# EAGLE library part DRV8801RTYT (library DRV8801_ultra_librarian)
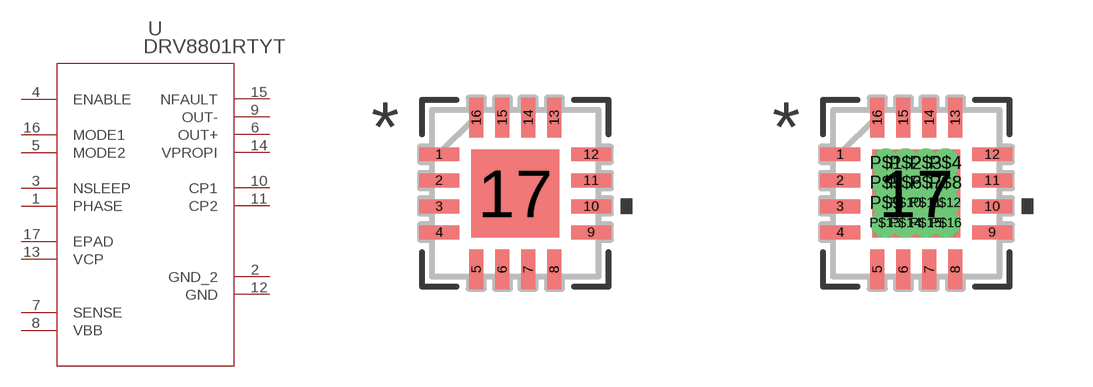
[diagram p0: symbol with the pads of RTY16; footprints RTY16, RTY16-THERMAL]

Designator prefix U

## DRV8801RTYT (MANUFACTURER_PART_NUMBER: DRV8801RTYT; VENDOR: Texas Instruments)  [RTY16]
1  PHASE  in
2  GND_2  pwr
3  NSLEEP  in
4  ENABLE  in
5  MODE2  in
6  OUT+  out
7  SENSE  pwr
8  VBB  pwr
9  OUT-  out
10  CP1  pas
11  CP2  pas
12  GND  pwr
13  VCP  pas
14  VPROPI  out
15  NFAULT  out
16  MODE1  in
17  EPAD  pas

## DRV8801RTYTRTY16-THERMAL  [RTY16-THERMAL]
1  PHASE  in
2  GND_2  pwr
3  NSLEEP  in
4  ENABLE  in
5  MODE2  in
6  OUT+  out
7  SENSE  pwr
8  VBB  pwr
9  OUT-  out
10  CP1  pas
11  CP2  pas
12  GND  pwr
13  VCP  pas
14  VPROPI  out
15  NFAULT  out
16  MODE1  in
17  EPAD  pas
P$1  EPAD  pas
P$2  EPAD  pas
P$3  EPAD  pas
P$4  EPAD  pas
P$5  EPAD  pas
P$6  EPAD  pas
P$7  EPAD  pas
P$8  EPAD  pas
P$9  EPAD  pas
P$10  EPAD  pas
P$11  EPAD  pas
P$12  EPAD  pas
P$13  EPAD  pas
P$14  EPAD  pas
P$15  EPAD  pas
P$16  EPAD  pas

## Footprint RTY16 (pad centres in mm)
smd 1 x 0.35: 1 -1.9,0.975; 2 -1.9,0.325; 3 -1.9,-0.325; 4 -1.9,-0.975; 9 1.9,-0.975; 10 1.9,-0.325; 11 1.9,0.325; 12 1.9,0.975
smd 0.35 x 1: 5 -0.975,-1.9; 6 -0.325,-1.9; 7 0.325,-1.9; 8 0.975,-1.9; 13 0.975,1.9; 14 0.325,1.9; 15 -0.325,1.9; 16 -0.975,1.9
smd 2.2 x 2.2: 17 0,0

## Footprint RTY16-THERMAL (pad centres in mm)
smd 1 x 0.35: 1 -1.9,0.975; 2 -1.9,0.325; 3 -1.9,-0.325; 4 -1.9,-0.975; 9 1.9,-0.975; 10 1.9,-0.325; 11 1.9,0.325; 12 1.9,0.975
smd 0.35 x 1: 5 -0.975,-1.9; 6 -0.325,-1.9; 7 0.325,-1.9; 8 0.975,-1.9; 13 0.975,1.9; 14 0.325,1.9; 15 -0.325,1.9; 16 -0.975,1.9
smd 2.2 x 2.2: 17 0,0
drill 0.203 pad 0.254: P$1 -0.762,0.762; P$2 -0.27,0.762; P$3 0.238,0.762; P$4 0.73,0.762; P$5 -0.762,0.27; P$6 -0.27,0.27; P$7 0.238,0.27; P$8 0.73,0.27; P$9 -0.762,-0.238; P$10 -0.27,-0.238; P$11 0.238,-0.238; P$12 0.73,-0.238; P$13 -0.778,-0.746; P$14 -0.27,-0.746; P$15 0.238,-0.746; P$16 0.746,-0.746